# EAGLE library part M09 (library dr-library)
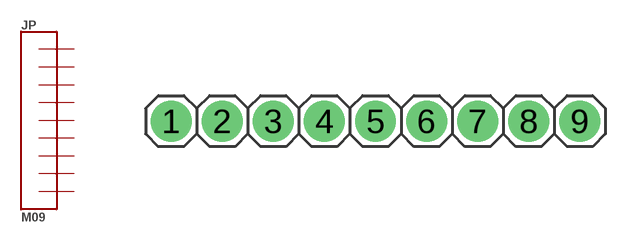
[diagram p19: symbol with the pads of 1X09; footprint 1X09]

Designator prefix JP

## M09  [1X09]
1  1
2  2
3  3
4  4
5  5
6  6
7  7
8  8
9  9

## Footprint 1X09 (pad centres in mm)
PIN HEADER
drill 1.016 pad 2.032: 1 -1.27,0; 2 1.27,0; 3 3.81,0; 4 6.35,0; 5 8.89,0; 6 11.43,0; 7 13.97,0; 8 16.51,0; 9 19.05,0